# EAGLE library part LEXX_SO8 (library LExx)
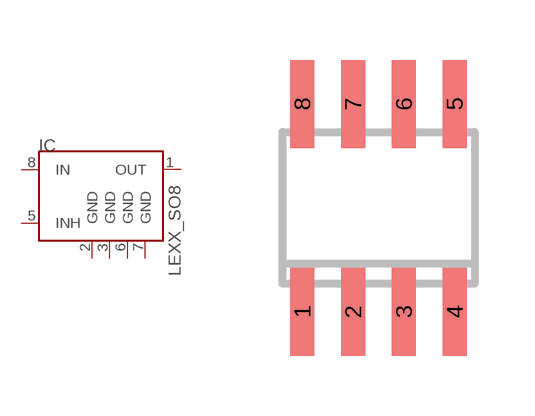
[diagram p0: symbol with the pads of SO8; footprint SO8]

Designator prefix IC

## LEXX_SO8  [SO8]
1  OUT  pwr
2  GND  pwr
3  GND  pwr
5  INH  pas
6  GND  pwr
7  GND  pwr
8  IN  pwr

## Footprint SO8 (pad centres in mm)
SMALL OUTLINE INTEGRATED CIRCUIT
smd 0.6 x 2.2: 1 -1.905,-2.6; 2 -0.635,-2.6; 3 0.635,-2.6; 4 1.905,-2.6; 5 1.905,2.6; 6 0.635,2.6; 7 -0.635,2.6; 8 -1.905,2.6